# Altium footprint library Connector_Hirose_FX8.PcbLib: 12 footprints
Each footprint in its own frame and in the unit in brackets; x right, y up, seen from the top. Pads: shape width x height; smd on the part's side, far side on the other; paste and mask are expansions set on the pad; w line width, h text height; cw(c..) or ccw(c..) is an arc to the next point about the centre after c.
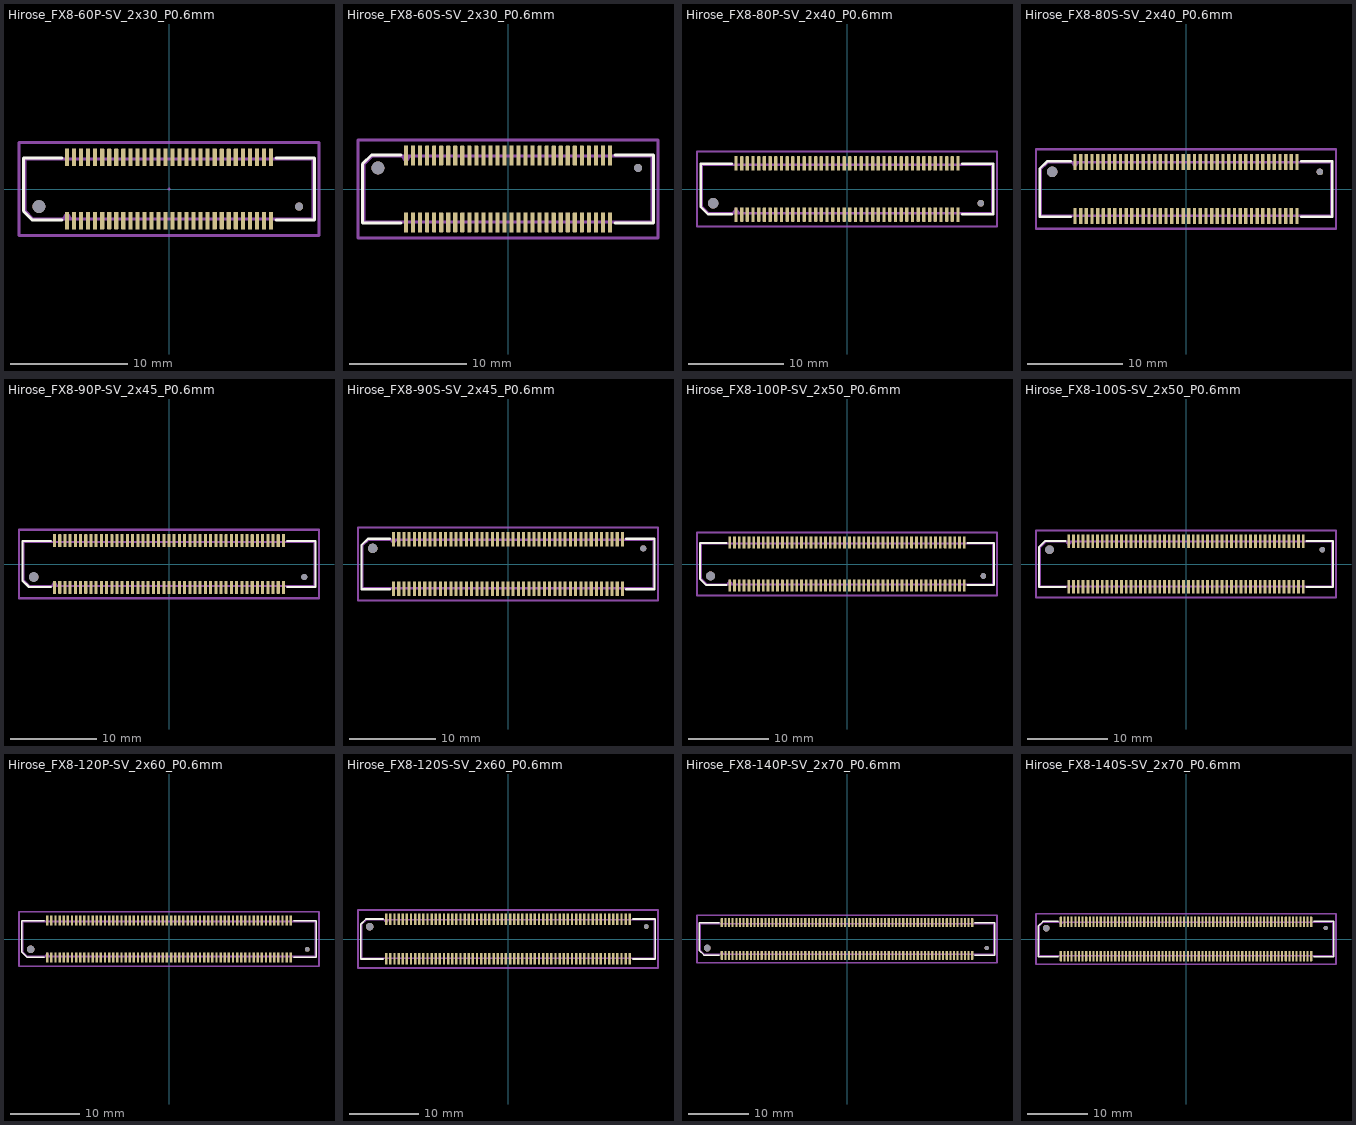
[diagram p0: the footprints below, top view; thin cyan lines are the x and y axes]

## Hirose_FX8-60P-SV_2x30_P0.6mm [mm]
pads (62):
  rrect25% 0.35x1.5 smd: 1(-8.7,-2.7) 2(-8.7,2.7) 3(-8.1,-2.7) 4(-8.1,2.7) 5(-7.5,-2.7) 6(-7.5,2.7) 7(-6.9,-2.7) 8(-6.9,2.7) 9(-6.3,-2.7) 10(-6.3,2.7) 11(-5.7,-2.7) 12(-5.7,2.7) 13(-5.1,-2.7) 14(-5.1,2.7) 15(-4.5,-2.7) 16(-4.5,2.7) 17(-3.9,-2.7) 18(-3.9,2.7) 19(-3.3,-2.7) 20(-3.3,2.7) 21(-2.7,-2.7) 22(-2.7,2.7) 23(-2.1,-2.7) 24(-2.1,2.7) 25(-1.5,-2.7) 26(-1.5,2.7) 27(-0.9,-2.7) 28(-0.9,2.7) 29(-0.3,-2.7) 30(-0.3,2.7) 31(0.3,-2.7) 32(0.3,2.7) 33(0.9,-2.7) 34(0.9,2.7) 35(1.5,-2.7) 36(1.5,2.7) 37(2.1,-2.7) 38(2.1,2.7) 39(2.7,-2.7) 40(2.7,2.7) 41(3.3,-2.7) 42(3.3,2.7) 43(3.9,-2.7) 44(3.9,2.7) 45(4.5,-2.7) 46(4.5,2.7) 47(5.1,-2.7) 48(5.1,2.7) 49(5.7,-2.7) 50(5.7,2.7) 51(6.3,-2.7) 52(6.3,2.7) 53(6.9,-2.7) 54(6.9,2.7) 55(7.5,-2.7) 56(7.5,2.7) 57(8.1,-2.7) 58(8.1,2.7) 59(8.7,-2.7) 60(8.7,2.7)
  round 1.1 hole 1.1: Un1(-11.1,-1.5)
  round 0.7 hole 0.7: Un2(11.1,-1.5)
F.SilkS:
  lines w0.254: -9.135,-2.66 -11.646,-2.66 -12.41,-1.896 -12.41,2.66 -9.135,2.66 ; 9.135,-2.66 12.41,-2.66 12.41,2.66 9.135,2.66
Top Component Center:
  lines w0.127: -0.127,0 0.127,0 ; 0,-0.127 0,0.127
Top Assembly:
  lines w0.254: -9,-2.55 -8.7,-2.07 -8.4,-2.55 ; -12.3,-1.85 -11.6,-2.55 12.3,-2.55 12.3,2.55 -12.3,2.55 -12.3,-1.85
  text "'.Designator'" at -4.047,-0.84 h1
Top Courtyard:
  lines w0.254: -12.8,-3.95 12.8,-3.95 12.8,3.95 -12.8,3.95 -12.8,-3.95
Top Designator:
  text ".Designator" at -7.618,-0.508 h1.52

## Hirose_FX8-60S-SV_2x30_P0.6mm [mm]
pads (62):
  rrect25% 0.35x1.7 smd: 1(-8.7,2.85) 2(-8.7,-2.85) 3(-8.1,2.85) 4(-8.1,-2.85) 5(-7.5,2.85) 6(-7.5,-2.85) 7(-6.9,2.85) 8(-6.9,-2.85) 9(-6.3,2.85) 10(-6.3,-2.85) 11(-5.7,2.85) 12(-5.7,-2.85) 13(-5.1,2.85) 14(-5.1,-2.85) 15(-4.5,2.85) 16(-4.5,-2.85) 17(-3.9,2.85) 18(-3.9,-2.85) 19(-3.3,2.85) 20(-3.3,-2.85) 21(-2.7,2.85) 22(-2.7,-2.85) 23(-2.1,2.85) 24(-2.1,-2.85) 25(-1.5,2.85) 26(-1.5,-2.85) 27(-0.9,2.85) 28(-0.9,-2.85) 29(-0.3,2.85) 30(-0.3,-2.85) 31(0.3,2.85) 32(0.3,-2.85) 33(0.9,2.85) 34(0.9,-2.85) 35(1.5,2.85) 36(1.5,-2.85) 37(2.1,2.85) 38(2.1,-2.85) 39(2.7,2.85) 40(2.7,-2.85) 41(3.3,2.85) 42(3.3,-2.85) 43(3.9,2.85) 44(3.9,-2.85) 45(4.5,2.85) 46(4.5,-2.85) 47(5.1,2.85) 48(5.1,-2.85) 49(5.7,2.85) 50(5.7,-2.85) 51(6.3,2.85) 52(6.3,-2.85) 53(6.9,2.85) 54(6.9,-2.85) 55(7.5,2.85) 56(7.5,-2.85) 57(8.1,2.85) 58(8.1,-2.85) 59(8.7,2.85) 60(8.7,-2.85)
  round 1.1 hole 1.1: Un1(-11.1,1.8)
  round 0.7 hole 0.7: Un2(11.1,1.8)
F.SilkS:
  lines w0.254: -9.135,-2.91 -12.41,-2.91 -12.41,2.146 -11.646,2.91 -9.135,2.91 ; 9.135,-2.91 12.41,-2.91 12.41,2.91 9.135,2.91
Top Assembly:
  lines w0.254: -9,2.8 -8.7,2.32 -8.4,2.8 ; -12.3,-2.8 12.3,-2.8 12.3,2.8 -11.6,2.8 -12.3,2.1 -12.3,-2.8
  text "'.Designator'" at -4.047,-0.84 h1
Top Courtyard:
  lines w0.254: -12.8,-4.2 12.8,-4.2 12.8,4.2 -12.8,4.2 -12.8,-4.2
Top Designator:
  text ".Designator" at -7.618,-0.508 h1.52

## Hirose_FX8-80P-SV_2x40_P0.6mm [mm]
pads (82):
  rrect25% 0.35x1.5 smd: 1(-11.7,-2.7) 2(-11.7,2.7) 3(-11.1,-2.7) 4(-11.1,2.7) 5(-10.5,-2.7) 6(-10.5,2.7) 7(-9.9,-2.7) 8(-9.9,2.7) 9(-9.3,-2.7) 10(-9.3,2.7) 11(-8.7,-2.7) 12(-8.7,2.7) 13(-8.1,-2.7) 14(-8.1,2.7) 15(-7.5,-2.7) 16(-7.5,2.7) 17(-6.9,-2.7) 18(-6.9,2.7) 19(-6.3,-2.7) 20(-6.3,2.7) 21(-5.7,-2.7) 22(-5.7,2.7) 23(-5.1,-2.7) 24(-5.1,2.7) 25(-4.5,-2.7) 26(-4.5,2.7) 27(-3.9,-2.7) 28(-3.9,2.7) 29(-3.3,-2.7) 30(-3.3,2.7) 31(-2.7,-2.7) 32(-2.7,2.7) 33(-2.1,-2.7) 34(-2.1,2.7) 35(-1.5,-2.7) 36(-1.5,2.7) 37(-0.9,-2.7) 38(-0.9,2.7) 39(-0.3,-2.7) 40(-0.3,2.7) 41(0.3,-2.7) 42(0.3,2.7) 43(0.9,-2.7) 44(0.9,2.7) 45(1.5,-2.7) 46(1.5,2.7) 47(2.1,-2.7) 48(2.1,2.7) 49(2.7,-2.7) 50(2.7,2.7) 51(3.3,-2.7) 52(3.3,2.7) 53(3.9,-2.7) 54(3.9,2.7) 55(4.5,-2.7) 56(4.5,2.7) 57(5.1,-2.7) 58(5.1,2.7) 59(5.7,-2.7) 60(5.7,2.7) 61(6.3,-2.7) 62(6.3,2.7) 63(6.9,-2.7) 64(6.9,2.7) 65(7.5,-2.7) 66(7.5,2.7) 67(8.1,-2.7) 68(8.1,2.7) 69(8.7,-2.7) 70(8.7,2.7) 71(9.3,-2.7) 72(9.3,2.7) 73(9.9,-2.7) 74(9.9,2.7) 75(10.5,-2.7) 76(10.5,2.7) 77(11.1,-2.7) 78(11.1,2.7) 79(11.7,-2.7) 80(11.7,2.7)
  round 1.1 hole 1.1: Un1(-14.1,-1.5)
  round 0.7 hole 0.7: Un2(14.1,-1.5)
F.SilkS:
  lines w0.254: -12.135,-2.66 -14.646,-2.66 -15.41,-1.896 -15.41,2.66 -12.135,2.66 ; 12.135,-2.66 15.41,-2.66 15.41,2.66 12.135,2.66
Top Assembly:
  lines w0.254: -12,-2.55 -11.7,-2.07 -11.4,-2.55 ; -15.3,-1.85 -14.6,-2.55 15.3,-2.55 15.3,2.55 -15.3,2.55 -15.3,-1.85
  text "'.Designator'" at -4.047,-0.84 h1
Top Courtyard:
  lines w0.254: -15.8,-3.95 15.8,-3.95 15.8,3.95 -15.8,3.95 -15.8,-3.95
Top Designator:
  text ".Designator" at -7.618,-0.508 h1.52

## Hirose_FX8-80S-SV_2x40_P0.6mm [mm]
pads (82):
  rrect25% 0.35x1.7 smd: 1(-11.7,2.85) 2(-11.7,-2.85) 3(-11.1,2.85) 4(-11.1,-2.85) 5(-10.5,2.85) 6(-10.5,-2.85) 7(-9.9,2.85) 8(-9.9,-2.85) 9(-9.3,2.85) 10(-9.3,-2.85) 11(-8.7,2.85) 12(-8.7,-2.85) 13(-8.1,2.85) 14(-8.1,-2.85) 15(-7.5,2.85) 16(-7.5,-2.85) 17(-6.9,2.85) 18(-6.9,-2.85) 19(-6.3,2.85) 20(-6.3,-2.85) 21(-5.7,2.85) 22(-5.7,-2.85) 23(-5.1,2.85) 24(-5.1,-2.85) 25(-4.5,2.85) 26(-4.5,-2.85) 27(-3.9,2.85) 28(-3.9,-2.85) 29(-3.3,2.85) 30(-3.3,-2.85) 31(-2.7,2.85) 32(-2.7,-2.85) 33(-2.1,2.85) 34(-2.1,-2.85) 35(-1.5,2.85) 36(-1.5,-2.85) 37(-0.9,2.85) 38(-0.9,-2.85) 39(-0.3,2.85) 40(-0.3,-2.85) 41(0.3,2.85) 42(0.3,-2.85) 43(0.9,2.85) 44(0.9,-2.85) 45(1.5,2.85) 46(1.5,-2.85) 47(2.1,2.85) 48(2.1,-2.85) 49(2.7,2.85) 50(2.7,-2.85) 51(3.3,2.85) 52(3.3,-2.85) 53(3.9,2.85) 54(3.9,-2.85) 55(4.5,2.85) 56(4.5,-2.85) 57(5.1,2.85) 58(5.1,-2.85) 59(5.7,2.85) 60(5.7,-2.85) 61(6.3,2.85) 62(6.3,-2.85) 63(6.9,2.85) 64(6.9,-2.85) 65(7.5,2.85) 66(7.5,-2.85) 67(8.1,2.85) 68(8.1,-2.85) 69(8.7,2.85) 70(8.7,-2.85) 71(9.3,2.85) 72(9.3,-2.85) 73(9.9,2.85) 74(9.9,-2.85) 75(10.5,2.85) 76(10.5,-2.85) 77(11.1,2.85) 78(11.1,-2.85) 79(11.7,2.85) 80(11.7,-2.85)
  round 1.1 hole 1.1: Un1(-14.1,1.8)
  round 0.7 hole 0.7: Un2(14.1,1.8)
F.SilkS:
  lines w0.254: -12.135,-2.91 -15.41,-2.91 -15.41,2.146 -14.646,2.91 -12.135,2.91 ; 12.135,-2.91 15.41,-2.91 15.41,2.91 12.135,2.91
Top Assembly:
  lines w0.254: -12,2.8 -11.7,2.32 -11.4,2.8 ; -15.3,-2.8 15.3,-2.8 15.3,2.8 -14.6,2.8 -15.3,2.1 -15.3,-2.8
  text "'.Designator'" at -4.047,-0.84 h1
Top Courtyard:
  lines w0.254: -15.8,-4.2 15.8,-4.2 15.8,4.2 -15.8,4.2 -15.8,-4.2
Top Designator:
  text ".Designator" at -7.618,-0.508 h1.52

## Hirose_FX8-90P-SV_2x45_P0.6mm [mm]
pads (92):
  rrect25% 0.35x1.5 smd: 1(-13.2,-2.7) 2(-13.2,2.7) 3(-12.6,-2.7) 4(-12.6,2.7) 5(-12,-2.7) 6(-12,2.7) 7(-11.4,-2.7) 8(-11.4,2.7) 9(-10.8,-2.7) 10(-10.8,2.7) 11(-10.2,-2.7) 12(-10.2,2.7) 13(-9.6,-2.7) 14(-9.6,2.7) 15(-9,-2.7) 16(-9,2.7) 17(-8.4,-2.7) 18(-8.4,2.7) 19(-7.8,-2.7) 20(-7.8,2.7) 21(-7.2,-2.7) 22(-7.2,2.7) 23(-6.6,-2.7) 24(-6.6,2.7) 25(-6,-2.7) 26(-6,2.7) 27(-5.4,-2.7) 28(-5.4,2.7) 29(-4.8,-2.7) 30(-4.8,2.7) 31(-4.2,-2.7) 32(-4.2,2.7) 33(-3.6,-2.7) 34(-3.6,2.7) 35(-3,-2.7) 36(-3,2.7) 37(-2.4,-2.7) 38(-2.4,2.7) 39(-1.8,-2.7) 40(-1.8,2.7) 41(-1.2,-2.7) 42(-1.2,2.7) 43(-0.6,-2.7) 44(-0.6,2.7) 45(0,-2.7) 46(0,2.7) 47(0.6,-2.7) 48(0.6,2.7) 49(1.2,-2.7) 50(1.2,2.7) 51(1.8,-2.7) 52(1.8,2.7) 53(2.4,-2.7) 54(2.4,2.7) 55(3,-2.7) 56(3,2.7) 57(3.6,-2.7) 58(3.6,2.7) 59(4.2,-2.7) 60(4.2,2.7) 61(4.8,-2.7) 62(4.8,2.7) 63(5.4,-2.7) 64(5.4,2.7) 65(6,-2.7) 66(6,2.7) 67(6.6,-2.7) 68(6.6,2.7) 69(7.2,-2.7) 70(7.2,2.7) 71(7.8,-2.7) 72(7.8,2.7) 73(8.4,-2.7) 74(8.4,2.7) 75(9,-2.7) 76(9,2.7) 77(9.6,-2.7) 78(9.6,2.7) 79(10.2,-2.7) 80(10.2,2.7) 81(10.8,-2.7) 82(10.8,2.7) 83(11.4,-2.7) 84(11.4,2.7) 85(12,-2.7) 86(12,2.7) 87(12.6,-2.7) 88(12.6,2.7) 89(13.2,-2.7) 90(13.2,2.7)
  round 1.1 hole 1.1: Un1(-15.6,-1.5)
  round 0.7 hole 0.7: Un2(15.6,-1.5)
F.SilkS:
  lines w0.254: -13.635,-2.66 -16.146,-2.66 -16.91,-1.896 -16.91,2.66 -13.635,2.66 ; 13.635,-2.66 16.91,-2.66 16.91,2.66 13.635,2.66
Top Assembly:
  lines w0.254: -13.5,-2.55 -13.2,-2.07 -12.9,-2.55 ; -16.8,-1.85 -16.1,-2.55 16.8,-2.55 16.8,2.55 -16.8,2.55 -16.8,-1.85
  text "'.Designator'" at -4.047,-0.84 h1
Top Courtyard:
  lines w0.254: -17.3,-3.95 17.3,-3.95 17.3,3.95 -17.3,3.95 -17.3,-3.95
Top Designator:
  text ".Designator" at -7.618,-0.508 h1.52

## Hirose_FX8-90S-SV_2x45_P0.6mm [mm]
pads (92):
  rrect25% 0.35x1.7 smd: 1(-13.2,2.85) 2(-13.2,-2.85) 3(-12.6,2.85) 4(-12.6,-2.85) 5(-12,2.85) 6(-12,-2.85) 7(-11.4,2.85) 8(-11.4,-2.85) 9(-10.8,2.85) 10(-10.8,-2.85) 11(-10.2,2.85) 12(-10.2,-2.85) 13(-9.6,2.85) 14(-9.6,-2.85) 15(-9,2.85) 16(-9,-2.85) 17(-8.4,2.85) 18(-8.4,-2.85) 19(-7.8,2.85) 20(-7.8,-2.85) 21(-7.2,2.85) 22(-7.2,-2.85) 23(-6.6,2.85) 24(-6.6,-2.85) 25(-6,2.85) 26(-6,-2.85) 27(-5.4,2.85) 28(-5.4,-2.85) 29(-4.8,2.85) 30(-4.8,-2.85) 31(-4.2,2.85) 32(-4.2,-2.85) 33(-3.6,2.85) 34(-3.6,-2.85) 35(-3,2.85) 36(-3,-2.85) 37(-2.4,2.85) 38(-2.4,-2.85) 39(-1.8,2.85) 40(-1.8,-2.85) 41(-1.2,2.85) 42(-1.2,-2.85) 43(-0.6,2.85) 44(-0.6,-2.85) 45(0,2.85) 46(0,-2.85) 47(0.6,2.85) 48(0.6,-2.85) 49(1.2,2.85) 50(1.2,-2.85) 51(1.8,2.85) 52(1.8,-2.85) 53(2.4,2.85) 54(2.4,-2.85) 55(3,2.85) 56(3,-2.85) 57(3.6,2.85) 58(3.6,-2.85) 59(4.2,2.85) 60(4.2,-2.85) 61(4.8,2.85) 62(4.8,-2.85) 63(5.4,2.85) 64(5.4,-2.85) 65(6,2.85) 66(6,-2.85) 67(6.6,2.85) 68(6.6,-2.85) 69(7.2,2.85) 70(7.2,-2.85) 71(7.8,2.85) 72(7.8,-2.85) 73(8.4,2.85) 74(8.4,-2.85) 75(9,2.85) 76(9,-2.85) 77(9.6,2.85) 78(9.6,-2.85) 79(10.2,2.85) 80(10.2,-2.85) 81(10.8,2.85) 82(10.8,-2.85) 83(11.4,2.85) 84(11.4,-2.85) 85(12,2.85) 86(12,-2.85) 87(12.6,2.85) 88(12.6,-2.85) 89(13.2,2.85) 90(13.2,-2.85)
  round 1.1 hole 1.1: Un1(-15.6,1.8)
  round 0.7 hole 0.7: Un2(15.6,1.8)
F.SilkS:
  lines w0.254: -13.635,-2.91 -16.91,-2.91 -16.91,2.146 -16.146,2.91 -13.635,2.91 ; 13.635,-2.91 16.91,-2.91 16.91,2.91 13.635,2.91
Top Assembly:
  lines w0.254: -13.5,2.8 -13.2,2.32 -12.9,2.8 ; -16.8,-2.8 16.8,-2.8 16.8,2.8 -16.1,2.8 -16.8,2.1 -16.8,-2.8
  text "'.Designator'" at -4.047,-0.84 h1
Top Courtyard:
  lines w0.254: -17.3,-4.2 17.3,-4.2 17.3,4.2 -17.3,4.2 -17.3,-4.2
Top Designator:
  text ".Designator" at -7.618,-0.508 h1.52

## Hirose_FX8-100P-SV_2x50_P0.6mm [mm]
pads (102):
  rrect25% 0.35x1.5 smd: 1(-14.7,-2.7) 2(-14.7,2.7) 3(-14.1,-2.7) 4(-14.1,2.7) 5(-13.5,-2.7) 6(-13.5,2.7) 7(-12.9,-2.7) 8(-12.9,2.7) 9(-12.3,-2.7) 10(-12.3,2.7) 11(-11.7,-2.7) 12(-11.7,2.7) 13(-11.1,-2.7) 14(-11.1,2.7) 15(-10.5,-2.7) 16(-10.5,2.7) 17(-9.9,-2.7) 18(-9.9,2.7) 19(-9.3,-2.7) 20(-9.3,2.7) 21(-8.7,-2.7) 22(-8.7,2.7) 23(-8.1,-2.7) 24(-8.1,2.7) 25(-7.5,-2.7) 26(-7.5,2.7) 27(-6.9,-2.7) 28(-6.9,2.7) 29(-6.3,-2.7) 30(-6.3,2.7) 31(-5.7,-2.7) 32(-5.7,2.7) 33(-5.1,-2.7) 34(-5.1,2.7) 35(-4.5,-2.7) 36(-4.5,2.7) 37(-3.9,-2.7) 38(-3.9,2.7) 39(-3.3,-2.7) 40(-3.3,2.7) 41(-2.7,-2.7) 42(-2.7,2.7) 43(-2.1,-2.7) 44(-2.1,2.7) 45(-1.5,-2.7) 46(-1.5,2.7) 47(-0.9,-2.7) 48(-0.9,2.7) 49(-0.3,-2.7) 50(-0.3,2.7) 51(0.3,-2.7) 52(0.3,2.7) 53(0.9,-2.7) 54(0.9,2.7) 55(1.5,-2.7) 56(1.5,2.7) 57(2.1,-2.7) 58(2.1,2.7) 59(2.7,-2.7) 60(2.7,2.7) 61(3.3,-2.7) 62(3.3,2.7) 63(3.9,-2.7) 64(3.9,2.7) 65(4.5,-2.7) 66(4.5,2.7) 67(5.1,-2.7) 68(5.1,2.7) 69(5.7,-2.7) 70(5.7,2.7) 71(6.3,-2.7) 72(6.3,2.7) 73(6.9,-2.7) 74(6.9,2.7) 75(7.5,-2.7) 76(7.5,2.7) 77(8.1,-2.7) 78(8.1,2.7) 79(8.7,-2.7) 80(8.7,2.7) 81(9.3,-2.7) 82(9.3,2.7) 83(9.9,-2.7) 84(9.9,2.7) 85(10.5,-2.7) 86(10.5,2.7) 87(11.1,-2.7) 88(11.1,2.7) 89(11.7,-2.7) 90(11.7,2.7) 91(12.3,-2.7) 92(12.3,2.7) 93(12.9,-2.7) 94(12.9,2.7) 95(13.5,-2.7) 96(13.5,2.7) 97(14.1,-2.7) 98(14.1,2.7) 99(14.7,-2.7) 100(14.7,2.7)
  round 1.1 hole 1.1: Un1(-17.1,-1.5)
  round 0.7 hole 0.7: Un2(17.1,-1.5)
F.SilkS:
  lines w0.254: -15.135,-2.66 -17.646,-2.66 -18.41,-1.896 -18.41,2.66 -15.135,2.66 ; 15.135,-2.66 18.41,-2.66 18.41,2.66 15.135,2.66
Top Assembly:
  lines w0.254: -15,-2.55 -14.7,-2.07 -14.4,-2.55 ; -18.3,-1.85 -17.6,-2.55 18.3,-2.55 18.3,2.55 -18.3,2.55 -18.3,-1.85
  text "'.Designator'" at -4.047,-0.84 h1
Top Courtyard:
  lines w0.254: -18.8,-3.95 18.8,-3.95 18.8,3.95 -18.8,3.95 -18.8,-3.95
Top Designator:
  text ".Designator" at -7.618,-0.508 h1.52

## Hirose_FX8-100S-SV_2x50_P0.6mm [mm]
pads (102):
  rrect25% 0.35x1.7 smd: 1(-14.7,2.85) 2(-14.7,-2.85) 3(-14.1,2.85) 4(-14.1,-2.85) 5(-13.5,2.85) 6(-13.5,-2.85) 7(-12.9,2.85) 8(-12.9,-2.85) 9(-12.3,2.85) 10(-12.3,-2.85) 11(-11.7,2.85) 12(-11.7,-2.85) 13(-11.1,2.85) 14(-11.1,-2.85) 15(-10.5,2.85) 16(-10.5,-2.85) 17(-9.9,2.85) 18(-9.9,-2.85) 19(-9.3,2.85) 20(-9.3,-2.85) 21(-8.7,2.85) 22(-8.7,-2.85) 23(-8.1,2.85) 24(-8.1,-2.85) 25(-7.5,2.85) 26(-7.5,-2.85) 27(-6.9,2.85) 28(-6.9,-2.85) 29(-6.3,2.85) 30(-6.3,-2.85) 31(-5.7,2.85) 32(-5.7,-2.85) 33(-5.1,2.85) 34(-5.1,-2.85) 35(-4.5,2.85) 36(-4.5,-2.85) 37(-3.9,2.85) 38(-3.9,-2.85) 39(-3.3,2.85) 40(-3.3,-2.85) 41(-2.7,2.85) 42(-2.7,-2.85) 43(-2.1,2.85) 44(-2.1,-2.85) 45(-1.5,2.85) 46(-1.5,-2.85) 47(-0.9,2.85) 48(-0.9,-2.85) 49(-0.3,2.85) 50(-0.3,-2.85) 51(0.3,2.85) 52(0.3,-2.85) 53(0.9,2.85) 54(0.9,-2.85) 55(1.5,2.85) 56(1.5,-2.85) 57(2.1,2.85) 58(2.1,-2.85) 59(2.7,2.85) 60(2.7,-2.85) 61(3.3,2.85) 62(3.3,-2.85) 63(3.9,2.85) 64(3.9,-2.85) 65(4.5,2.85) 66(4.5,-2.85) 67(5.1,2.85) 68(5.1,-2.85) 69(5.7,2.85) 70(5.7,-2.85) 71(6.3,2.85) 72(6.3,-2.85) 73(6.9,2.85) 74(6.9,-2.85) 75(7.5,2.85) 76(7.5,-2.85) 77(8.1,2.85) 78(8.1,-2.85) 79(8.7,2.85) 80(8.7,-2.85) 81(9.3,2.85) 82(9.3,-2.85) 83(9.9,2.85) 84(9.9,-2.85) 85(10.5,2.85) 86(10.5,-2.85) 87(11.1,2.85) 88(11.1,-2.85) 89(11.7,2.85) 90(11.7,-2.85) 91(12.3,2.85) 92(12.3,-2.85) 93(12.9,2.85) 94(12.9,-2.85) 95(13.5,2.85) 96(13.5,-2.85) 97(14.1,2.85) 98(14.1,-2.85) 99(14.7,2.85) 100(14.7,-2.85)
  round 1.1 hole 1.1: Un1(-17.1,1.8)
  round 0.7 hole 0.7: Un2(17.1,1.8)
F.SilkS:
  lines w0.254: -15.135,-2.91 -18.41,-2.91 -18.41,2.146 -17.646,2.91 -15.135,2.91 ; 15.135,-2.91 18.41,-2.91 18.41,2.91 15.135,2.91
Top Assembly:
  lines w0.254: -15,2.8 -14.7,2.32 -14.4,2.8 ; -18.3,-2.8 18.3,-2.8 18.3,2.8 -17.6,2.8 -18.3,2.1 -18.3,-2.8
  text "'.Designator'" at -4.047,-0.84 h1
Top Courtyard:
  lines w0.254: -18.8,-4.2 18.8,-4.2 18.8,4.2 -18.8,4.2 -18.8,-4.2
Top Designator:
  text ".Designator" at -7.618,-0.508 h1.52

## Hirose_FX8-120P-SV_2x60_P0.6mm [mm]
pads (122):
  rrect25% 0.35x1.5 smd: 1(-17.7,-2.7) 2(-17.7,2.7) 3(-17.1,-2.7) 4(-17.1,2.7) 5(-16.5,-2.7) 6(-16.5,2.7) 7(-15.9,-2.7) 8(-15.9,2.7) 9(-15.3,-2.7) 10(-15.3,2.7) 11(-14.7,-2.7) 12(-14.7,2.7) 13(-14.1,-2.7) 14(-14.1,2.7) 15(-13.5,-2.7) 16(-13.5,2.7) 17(-12.9,-2.7) 18(-12.9,2.7) 19(-12.3,-2.7) 20(-12.3,2.7) 21(-11.7,-2.7) 22(-11.7,2.7) 23(-11.1,-2.7) 24(-11.1,2.7) 25(-10.5,-2.7) 26(-10.5,2.7) 27(-9.9,-2.7) 28(-9.9,2.7) 29(-9.3,-2.7) 30(-9.3,2.7) 31(-8.7,-2.7) 32(-8.7,2.7) 33(-8.1,-2.7) 34(-8.1,2.7) 35(-7.5,-2.7) 36(-7.5,2.7) 37(-6.9,-2.7) 38(-6.9,2.7) 39(-6.3,-2.7) 40(-6.3,2.7) 41(-5.7,-2.7) 42(-5.7,2.7) 43(-5.1,-2.7) 44(-5.1,2.7) 45(-4.5,-2.7) 46(-4.5,2.7) 47(-3.9,-2.7) 48(-3.9,2.7) 49(-3.3,-2.7) 50(-3.3,2.7) 51(-2.7,-2.7) 52(-2.7,2.7) 53(-2.1,-2.7) 54(-2.1,2.7) 55(-1.5,-2.7) 56(-1.5,2.7) 57(-0.9,-2.7) 58(-0.9,2.7) 59(-0.3,-2.7) 60(-0.3,2.7) 61(0.3,-2.7) 62(0.3,2.7) 63(0.9,-2.7) 64(0.9,2.7) 65(1.5,-2.7) 66(1.5,2.7) 67(2.1,-2.7) 68(2.1,2.7) 69(2.7,-2.7) 70(2.7,2.7) 71(3.3,-2.7) 72(3.3,2.7) 73(3.9,-2.7) 74(3.9,2.7) 75(4.5,-2.7) 76(4.5,2.7) 77(5.1,-2.7) 78(5.1,2.7) 79(5.7,-2.7) 80(5.7,2.7) 81(6.3,-2.7) 82(6.3,2.7) 83(6.9,-2.7) 84(6.9,2.7) 85(7.5,-2.7) 86(7.5,2.7) 87(8.1,-2.7) 88(8.1,2.7) 89(8.7,-2.7) 90(8.7,2.7) 91(9.3,-2.7) 92(9.3,2.7) 93(9.9,-2.7) 94(9.9,2.7) 95(10.5,-2.7) 96(10.5,2.7) 97(11.1,-2.7) 98(11.1,2.7) 99(11.7,-2.7) 100(11.7,2.7) 101(12.3,-2.7) 102(12.3,2.7) 103(12.9,-2.7) 104(12.9,2.7) 105(13.5,-2.7) 106(13.5,2.7) 107(14.1,-2.7) 108(14.1,2.7) 109(14.7,-2.7) 110(14.7,2.7) 111(15.3,-2.7) 112(15.3,2.7) 113(15.9,-2.7) 114(15.9,2.7) 115(16.5,-2.7) 116(16.5,2.7) 117(17.1,-2.7) 118(17.1,2.7) 119(17.7,-2.7) 120(17.7,2.7)
  round 1.1 hole 1.1: Un1(-20.1,-1.5)
  round 0.7 hole 0.7: Un2(20.1,-1.5)
F.SilkS:
  lines w0.254: -18.135,-2.66 -20.646,-2.66 -21.41,-1.896 -21.41,2.66 -18.135,2.66 ; 18.135,-2.66 21.41,-2.66 21.41,2.66 18.135,2.66
Top Assembly:
  lines w0.254: -18,-2.55 -17.7,-2.07 -17.4,-2.55 ; -21.3,-1.85 -20.6,-2.55 21.3,-2.55 21.3,2.55 -21.3,2.55 -21.3,-1.85
  text "'.Designator'" at -4.047,-0.84 h1
Top Courtyard:
  lines w0.254: -21.8,-3.95 21.8,-3.95 21.8,3.95 -21.8,3.95 -21.8,-3.95
Top Designator:
  text ".Designator" at -7.618,-0.508 h1.52

## Hirose_FX8-120S-SV_2x60_P0.6mm [mm]
pads (122):
  rrect25% 0.35x1.7 smd: 1(-17.7,2.85) 2(-17.7,-2.85) 3(-17.1,2.85) 4(-17.1,-2.85) 5(-16.5,2.85) 6(-16.5,-2.85) 7(-15.9,2.85) 8(-15.9,-2.85) 9(-15.3,2.85) 10(-15.3,-2.85) 11(-14.7,2.85) 12(-14.7,-2.85) 13(-14.1,2.85) 14(-14.1,-2.85) 15(-13.5,2.85) 16(-13.5,-2.85) 17(-12.9,2.85) 18(-12.9,-2.85) 19(-12.3,2.85) 20(-12.3,-2.85) 21(-11.7,2.85) 22(-11.7,-2.85) 23(-11.1,2.85) 24(-11.1,-2.85) 25(-10.5,2.85) 26(-10.5,-2.85) 27(-9.9,2.85) 28(-9.9,-2.85) 29(-9.3,2.85) 30(-9.3,-2.85) 31(-8.7,2.85) 32(-8.7,-2.85) 33(-8.1,2.85) 34(-8.1,-2.85) 35(-7.5,2.85) 36(-7.5,-2.85) 37(-6.9,2.85) 38(-6.9,-2.85) 39(-6.3,2.85) 40(-6.3,-2.85) 41(-5.7,2.85) 42(-5.7,-2.85) 43(-5.1,2.85) 44(-5.1,-2.85) 45(-4.5,2.85) 46(-4.5,-2.85) 47(-3.9,2.85) 48(-3.9,-2.85) 49(-3.3,2.85) 50(-3.3,-2.85) 51(-2.7,2.85) 52(-2.7,-2.85) 53(-2.1,2.85) 54(-2.1,-2.85) 55(-1.5,2.85) 56(-1.5,-2.85) 57(-0.9,2.85) 58(-0.9,-2.85) 59(-0.3,2.85) 60(-0.3,-2.85) 61(0.3,2.85) 62(0.3,-2.85) 63(0.9,2.85) 64(0.9,-2.85) 65(1.5,2.85) 66(1.5,-2.85) 67(2.1,2.85) 68(2.1,-2.85) 69(2.7,2.85) 70(2.7,-2.85) 71(3.3,2.85) 72(3.3,-2.85) 73(3.9,2.85) 74(3.9,-2.85) 75(4.5,2.85) 76(4.5,-2.85) 77(5.1,2.85) 78(5.1,-2.85) 79(5.7,2.85) 80(5.7,-2.85) 81(6.3,2.85) 82(6.3,-2.85) 83(6.9,2.85) 84(6.9,-2.85) 85(7.5,2.85) 86(7.5,-2.85) 87(8.1,2.85) 88(8.1,-2.85) 89(8.7,2.85) 90(8.7,-2.85) 91(9.3,2.85) 92(9.3,-2.85) 93(9.9,2.85) 94(9.9,-2.85) 95(10.5,2.85) 96(10.5,-2.85) 97(11.1,2.85) 98(11.1,-2.85) 99(11.7,2.85) 100(11.7,-2.85) 101(12.3,2.85) 102(12.3,-2.85) 103(12.9,2.85) 104(12.9,-2.85) 105(13.5,2.85) 106(13.5,-2.85) 107(14.1,2.85) 108(14.1,-2.85) 109(14.7,2.85) 110(14.7,-2.85) 111(15.3,2.85) 112(15.3,-2.85) 113(15.9,2.85) 114(15.9,-2.85) 115(16.5,2.85) 116(16.5,-2.85) 117(17.1,2.85) 118(17.1,-2.85) 119(17.7,2.85) 120(17.7,-2.85)
  round 1.1 hole 1.1: Un1(-20.1,1.8)
  round 0.7 hole 0.7: Un2(20.1,1.8)
F.SilkS:
  lines w0.254: -18.135,-2.91 -21.41,-2.91 -21.41,2.146 -20.646,2.91 -18.135,2.91 ; 18.135,-2.91 21.41,-2.91 21.41,2.91 18.135,2.91
Top Assembly:
  lines w0.254: -18,2.8 -17.7,2.32 -17.4,2.8 ; -21.3,-2.8 21.3,-2.8 21.3,2.8 -20.6,2.8 -21.3,2.1 -21.3,-2.8
  text "'.Designator'" at -4.047,-0.84 h1
Top Courtyard:
  lines w0.254: -21.8,-4.2 21.8,-4.2 21.8,4.2 -21.8,4.2 -21.8,-4.2
Top Designator:
  text ".Designator" at -7.618,-0.508 h1.52

## Hirose_FX8-140P-SV_2x70_P0.6mm [mm]
pads (142):
  rrect25% 0.35x1.5 smd: 1(-20.7,-2.7) 2(-20.7,2.7) 3(-20.1,-2.7) 4(-20.1,2.7) 5(-19.5,-2.7) 6(-19.5,2.7) 7(-18.9,-2.7) 8(-18.9,2.7) 9(-18.3,-2.7) 10(-18.3,2.7) 11(-17.7,-2.7) 12(-17.7,2.7) 13(-17.1,-2.7) 14(-17.1,2.7) 15(-16.5,-2.7) 16(-16.5,2.7) 17(-15.9,-2.7) 18(-15.9,2.7) 19(-15.3,-2.7) 20(-15.3,2.7) 21(-14.7,-2.7) 22(-14.7,2.7) 23(-14.1,-2.7) 24(-14.1,2.7) 25(-13.5,-2.7) 26(-13.5,2.7) 27(-12.9,-2.7) 28(-12.9,2.7) 29(-12.3,-2.7) 30(-12.3,2.7) 31(-11.7,-2.7) 32(-11.7,2.7) 33(-11.1,-2.7) 34(-11.1,2.7) 35(-10.5,-2.7) 36(-10.5,2.7) 37(-9.9,-2.7) 38(-9.9,2.7) 39(-9.3,-2.7) 40(-9.3,2.7) 41(-8.7,-2.7) 42(-8.7,2.7) 43(-8.1,-2.7) 44(-8.1,2.7) 45(-7.5,-2.7) 46(-7.5,2.7) 47(-6.9,-2.7) 48(-6.9,2.7) 49(-6.3,-2.7) 50(-6.3,2.7) 51(-5.7,-2.7) 52(-5.7,2.7) 53(-5.1,-2.7) 54(-5.1,2.7) 55(-4.5,-2.7) 56(-4.5,2.7) 57(-3.9,-2.7) 58(-3.9,2.7) 59(-3.3,-2.7) 60(-3.3,2.7) 61(-2.7,-2.7) 62(-2.7,2.7) 63(-2.1,-2.7) 64(-2.1,2.7) 65(-1.5,-2.7) 66(-1.5,2.7) 67(-0.9,-2.7) 68(-0.9,2.7) 69(-0.3,-2.7) 70(-0.3,2.7) 71(0.3,-2.7) 72(0.3,2.7) 73(0.9,-2.7) 74(0.9,2.7) 75(1.5,-2.7) 76(1.5,2.7) 77(2.1,-2.7) 78(2.1,2.7) 79(2.7,-2.7) 80(2.7,2.7) 81(3.3,-2.7) 82(3.3,2.7) 83(3.9,-2.7) 84(3.9,2.7) 85(4.5,-2.7) 86(4.5,2.7) 87(5.1,-2.7) 88(5.1,2.7) 89(5.7,-2.7) 90(5.7,2.7) 91(6.3,-2.7) 92(6.3,2.7) 93(6.9,-2.7) 94(6.9,2.7) 95(7.5,-2.7) 96(7.5,2.7) 97(8.1,-2.7) 98(8.1,2.7) 99(8.7,-2.7) 100(8.7,2.7) 101(9.3,-2.7) 102(9.3,2.7) 103(9.9,-2.7) 104(9.9,2.7) 105(10.5,-2.7) 106(10.5,2.7) 107(11.1,-2.7) 108(11.1,2.7) 109(11.7,-2.7) 110(11.7,2.7) 111(12.3,-2.7) 112(12.3,2.7) 113(12.9,-2.7) 114(12.9,2.7) 115(13.5,-2.7) 116(13.5,2.7) 117(14.1,-2.7) 118(14.1,2.7) 119(14.7,-2.7) 120(14.7,2.7) 121(15.3,-2.7) 122(15.3,2.7) 123(15.9,-2.7) 124(15.9,2.7) 125(16.5,-2.7) 126(16.5,2.7) 127(17.1,-2.7) 128(17.1,2.7) 129(17.7,-2.7) 130(17.7,2.7) 131(18.3,-2.7) 132(18.3,2.7) 133(18.9,-2.7) 134(18.9,2.7) 135(19.5,-2.7) 136(19.5,2.7) 137(20.1,-2.7) 138(20.1,2.7) 139(20.7,-2.7) 140(20.7,2.7)
  round 1.1 hole 1.1: Un1(-23.1,-1.5)
  round 0.7 hole 0.7: Un2(23.1,-1.5)
F.SilkS:
  lines w0.254: -21.135,-2.66 -23.646,-2.66 -24.41,-1.896 -24.41,2.66 -21.135,2.66 ; 21.135,-2.66 24.41,-2.66 24.41,2.66 21.135,2.66
Top Assembly:
  lines w0.254: -21,-2.55 -20.7,-2.07 -20.4,-2.55 ; -24.3,-1.85 -23.6,-2.55 24.3,-2.55 24.3,2.55 -24.3,2.55 -24.3,-1.85
  text "'.Designator'" at -4.047,-0.84 h1
Top Courtyard:
  lines w0.254: -24.8,-3.95 24.8,-3.95 24.8,3.95 -24.8,3.95 -24.8,-3.95
Top Designator:
  text ".Designator" at -7.618,-0.508 h1.52

## Hirose_FX8-140S-SV_2x70_P0.6mm [mm]
pads (142):
  rrect25% 0.35x1.7 smd: 1(-20.7,2.85) 2(-20.7,-2.85) 3(-20.1,2.85) 4(-20.1,-2.85) 5(-19.5,2.85) 6(-19.5,-2.85) 7(-18.9,2.85) 8(-18.9,-2.85) 9(-18.3,2.85) 10(-18.3,-2.85) 11(-17.7,2.85) 12(-17.7,-2.85) 13(-17.1,2.85) 14(-17.1,-2.85) 15(-16.5,2.85) 16(-16.5,-2.85) 17(-15.9,2.85) 18(-15.9,-2.85) 19(-15.3,2.85) 20(-15.3,-2.85) 21(-14.7,2.85) 22(-14.7,-2.85) 23(-14.1,2.85) 24(-14.1,-2.85) 25(-13.5,2.85) 26(-13.5,-2.85) 27(-12.9,2.85) 28(-12.9,-2.85) 29(-12.3,2.85) 30(-12.3,-2.85) 31(-11.7,2.85) 32(-11.7,-2.85) 33(-11.1,2.85) 34(-11.1,-2.85) 35(-10.5,2.85) 36(-10.5,-2.85) 37(-9.9,2.85) 38(-9.9,-2.85) 39(-9.3,2.85) 40(-9.3,-2.85) 41(-8.7,2.85) 42(-8.7,-2.85) 43(-8.1,2.85) 44(-8.1,-2.85) 45(-7.5,2.85) 46(-7.5,-2.85) 47(-6.9,2.85) 48(-6.9,-2.85) 49(-6.3,2.85) 50(-6.3,-2.85) 51(-5.7,2.85) 52(-5.7,-2.85) 53(-5.1,2.85) 54(-5.1,-2.85) 55(-4.5,2.85) 56(-4.5,-2.85) 57(-3.9,2.85) 58(-3.9,-2.85) 59(-3.3,2.85) 60(-3.3,-2.85) 61(-2.7,2.85) 62(-2.7,-2.85) 63(-2.1,2.85) 64(-2.1,-2.85) 65(-1.5,2.85) 66(-1.5,-2.85) 67(-0.9,2.85) 68(-0.9,-2.85) 69(-0.3,2.85) 70(-0.3,-2.85) 71(0.3,2.85) 72(0.3,-2.85) 73(0.9,2.85) 74(0.9,-2.85) 75(1.5,2.85) 76(1.5,-2.85) 77(2.1,2.85) 78(2.1,-2.85) 79(2.7,2.85) 80(2.7,-2.85) 81(3.3,2.85) 82(3.3,-2.85) 83(3.9,2.85) 84(3.9,-2.85) 85(4.5,2.85) 86(4.5,-2.85) 87(5.1,2.85) 88(5.1,-2.85) 89(5.7,2.85) 90(5.7,-2.85) 91(6.3,2.85) 92(6.3,-2.85) 93(6.9,2.85) 94(6.9,-2.85) 95(7.5,2.85) 96(7.5,-2.85) 97(8.1,2.85) 98(8.1,-2.85) 99(8.7,2.85) 100(8.7,-2.85) 101(9.3,2.85) 102(9.3,-2.85) 103(9.9,2.85) 104(9.9,-2.85) 105(10.5,2.85) 106(10.5,-2.85) 107(11.1,2.85) 108(11.1,-2.85) 109(11.7,2.85) 110(11.7,-2.85) 111(12.3,2.85) 112(12.3,-2.85) 113(12.9,2.85) 114(12.9,-2.85) 115(13.5,2.85) 116(13.5,-2.85) 117(14.1,2.85) 118(14.1,-2.85) 119(14.7,2.85) 120(14.7,-2.85) 121(15.3,2.85) 122(15.3,-2.85) 123(15.9,2.85) 124(15.9,-2.85) 125(16.5,2.85) 126(16.5,-2.85) 127(17.1,2.85) 128(17.1,-2.85) 129(17.7,2.85) 130(17.7,-2.85) 131(18.3,2.85) 132(18.3,-2.85) 133(18.9,2.85) 134(18.9,-2.85) 135(19.5,2.85) 136(19.5,-2.85) 137(20.1,2.85) 138(20.1,-2.85) 139(20.7,2.85) 140(20.7,-2.85)
  round 1.1 hole 1.1: Un1(-23.1,1.8)
  round 0.7 hole 0.7: Un2(23.1,1.8)
F.SilkS:
  lines w0.254: -21.135,-2.91 -24.41,-2.91 -24.41,2.146 -23.646,2.91 -21.135,2.91 ; 21.135,-2.91 24.41,-2.91 24.41,2.91 21.135,2.91
Top Assembly:
  lines w0.254: -21,2.8 -20.7,2.32 -20.4,2.8 ; -24.3,-2.8 24.3,-2.8 24.3,2.8 -23.6,2.8 -24.3,2.1 -24.3,-2.8
  text "'.Designator'" at -4.047,-0.84 h1
Top Courtyard:
  lines w0.254: -24.8,-4.2 24.8,-4.2 24.8,4.2 -24.8,4.2 -24.8,-4.2
Top Designator:
  text ".Designator" at -7.618,-0.508 h1.52